# Altium schematic symbol library sym-0007.SchLib: 1 symbol
Pins are listed as number, name and electrical type; pins without a type are passive.

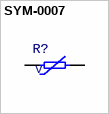
[diagram p0: symbol SYM-0007]

## SYM-0007
designator R?
Varistor
pins: 1, 2
1 alternate drawing of the same symbol
text: V